# Altium footprint library SW_DS04-254-2-01BK-SMT-TR.PcbLib: 1 footprints
Each footprint in its own frame and in the unit in brackets; x right, y up, seen from the top. Pads: shape width x height; smd on the part's side, far side on the other; paste and mask are expansions set on the pad; w line width, h text height; cw(c..) or ccw(c..) is an arc to the next point about the centre after c.
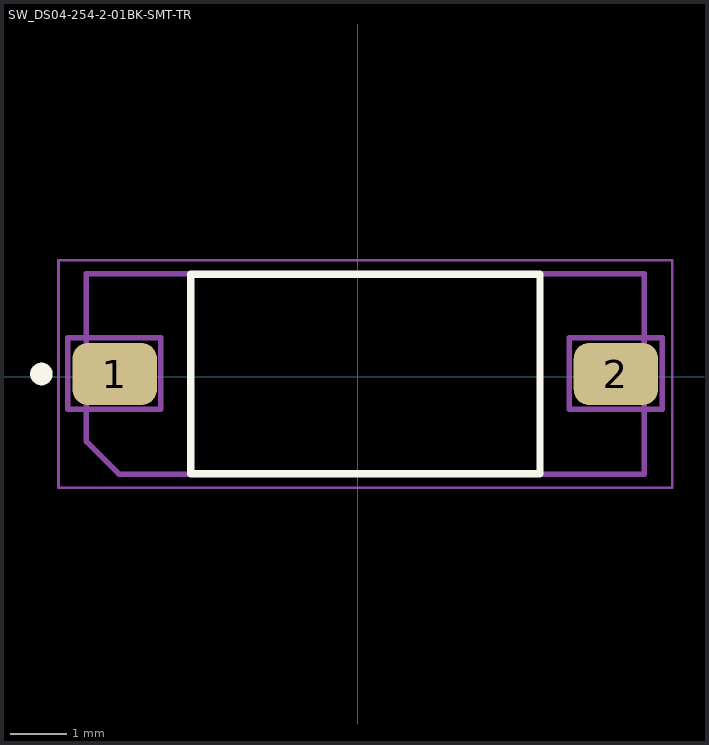
[diagram p0: the footprint, top view; thin cyan lines are the x and y axes]

## SW_DS04-254-2-01BK-SMT-TR [mm]
pads (2):
  rrect50% 1.5x1.1 smd: 1(-4.313,0.046) 2(4.587,0.046)
Top Overlay:
  circle w0.2: c-5.613,0.046 r0.1
  lines w0.127: -2.963,-1.724 -2.963,1.816 3.237,1.816 3.237,-1.724 -2.963,-1.724
Mechanical 3:
  lines w0.1: -4.816,-1.153 -4.237,-1.732 5.09,-1.732 5.09,1.824 -4.816,1.824 -4.816,-1.153
Mechanical 5:
  lines w0.1: -5.143,-0.579 -5.143,0.691 -3.492,0.691 -3.492,-0.579 -5.143,-0.579 ; 3.757,-0.579 5.408,-0.579 5.408,0.691 3.757,0.691 3.757,-0.579
Mechanical 7:
  lines w0.05: -5.313,-1.974 -5.313,2.066 5.587,2.066 5.587,-1.974 -5.313,-1.974
Mechanical 9:
  text "'.Designator'" at -5.538,-0.354 h1
3D body "CUI_DEVICES_DS04-254-2-01BK-SMT-TR.step": height 4.01, standoff 0.01, extent -4.813,-1.732 5.087,1.808
3D body: height 0.03, standoff 0, extent -5.313,-1.974 5.587,2.066